# Altium footprint library DIP-24 DC-DC.PcbLib: 1 footprints
Each footprint in its own frame and in the unit in brackets; x right, y up, seen from the top. Pads: shape width x height; smd on the part's side, far side on the other; paste and mask are expansions set on the pad; w line width, h text height; cw(c..) or ccw(c..) is an arc to the next point about the centre after c.
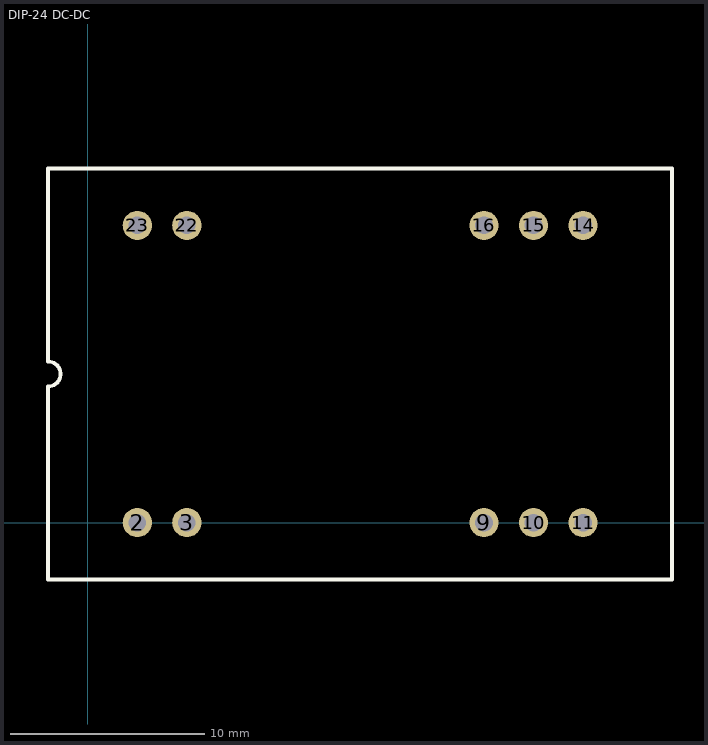
[diagram p0: the footprint, top view; thin cyan lines are the x and y axes]

## DIP-24 DC-DC [mm]
pads (10):
  round 1.5 hole 0.9: 2(2.54,0) 3(5.08,0) 9(20.32,0) 10(22.86,0) 11(25.4,0) 14(25.4,15.24) 15(22.86,15.24) 16(20.32,15.24) 22(5.08,15.24) 23(2.54,15.24)
Top Overlay:
  lines w0.2: -2.032,-2.921 -2.032,6.985 ccw(c-2.032,7.62) -2.032,8.255 -2.032,18.161 29.972,18.161 29.972,-2.921 -2.032,-2.921